# EAGLE library part 80-PIN-CARD-EDGE (library auv)
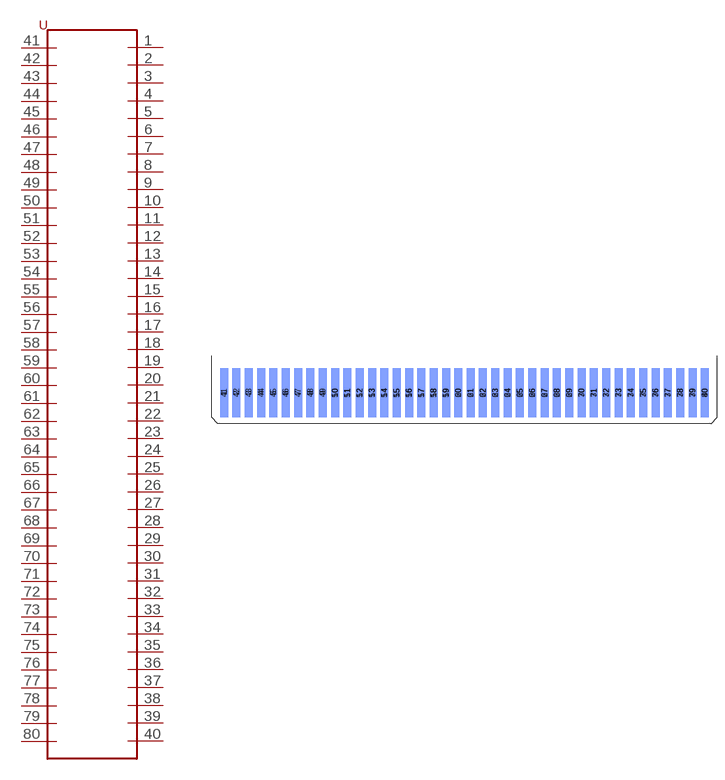
[diagram p0: symbol with the pads of 80-PIN-CARD-EDGE; footprint 80-PIN-CARD-EDGE]

Designator prefix -

## 80-PIN-CARD-EDGE  [80-PIN-CARD-EDGE]
1  P$1
2  P$2
3  P$3
4  P$4
5  P$5
6  P$6
7  P$7
8  P$8
9  P$9
10  P$10
11  P$11
12  P$12
13  P$13
14  P$14
15  P$15
16  P$16
17  P$17
18  P$18
19  P$19
20  P$20
21  P$21
22  P$22
23  P$23
24  P$24
25  P$25
26  P$26
27  P$27
28  P$28
29  P$29
30  P$30
31  P$31
32  P$32
33  P$33
34  P$34
35  P$35
36  P$36
37  P$37
38  P$38
39  P$39
40  P$40
41  P$41
42  P$42
43  P$43
44  P$44
45  P$45
46  P$46
47  P$47
48  P$48
49  P$49
50  P$50
51  P$51
52  P$52
53  P$53
54  P$54
55  P$55
56  P$56
57  P$57
58  P$58
59  P$59
60  P$60
61  P$61
62  P$62
63  P$63
64  P$64
65  P$65
66  P$66
67  P$67
68  P$68
69  P$69
70  P$70
71  P$71
72  P$72
73  P$73
74  P$74
75  P$75
76  P$76
77  P$77
78  P$78
79  P$79
80  P$80

## Footprint 80-PIN-CARD-EDGE (pad centres in mm)
smd 1.651 x 10.16: 1 -49.53,0; 2 -46.99,0; 3 -44.45,0; 4 -41.91,0; 5 -39.37,0; 6 -36.83,0; 7 -34.29,0; 8 -31.75,0; 9 -29.21,0; 10 -26.67,0; 11 -24.13,0; 12 -21.59,0; 13 -19.05,0; 14 -16.51,0; 15 -13.97,0; 16 -11.43,0; 17 -8.89,0; 18 -6.35,0; 19 -3.81,0; 20 -1.27,0; 21 1.27,0; 22 3.81,0; 23 6.35,0; 24 8.89,0; 25 11.43,0; 26 13.97,0; 27 16.51,0; 28 19.05,0; 29 21.59,0; 30 24.13,0; 31 26.67,0; 32 29.21,0; 33 31.75,0; 34 34.29,0; 35 36.83,0; 36 39.37,0; 37 41.91,0; 38 44.45,0; 39 46.99,0; 40 49.53,0
smd 1.651 x 10.16 bottom: 41 -49.53,0; 42 -46.99,0; 43 -44.45,0; 44 -41.91,0; 45 -39.37,0; 46 -36.83,0; 47 -34.29,0; 48 -31.75,0; 49 -29.21,0; 50 -26.67,0; 51 -24.13,0; 52 -21.59,0; 53 -19.05,0; 54 -16.51,0; 55 -13.97,0; 56 -11.43,0; 57 -8.89,0; 58 -6.35,0; 59 -3.81,0; 60 -1.27,0; 61 1.27,0; 62 3.81,0; 63 6.35,0; 64 8.89,0; 65 11.43,0; 66 13.97,0; 67 16.51,0; 68 19.05,0; 69 21.59,0; 70 24.13,0; 71 26.67,0; 72 29.21,0; 73 31.75,0; 74 34.29,0; 75 36.83,0; 76 39.37,0; 77 41.91,0; 78 44.45,0; 79 46.99,0; 80 49.53,0